# Altium schematic symbol library G510-Q50-00.SchLib: 1 symbol
Pins are listed as number, name and electrical type; pins without a type are passive.

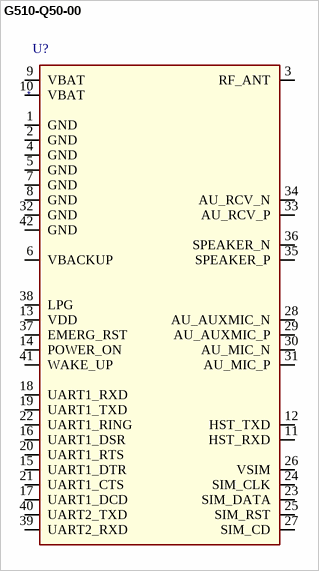
[diagram p0: symbol G510-Q50-00]

## G510-Q50-00
designator U?
ID: G510-Q50-00; PDF: http://www.tme.eu/pl/Document/fabb43e22a46fba821931db19e577988/FIBOCOM_G510_U_M.pdf; PRICE: 33.05; BUY_LINK: http://www.tme.eu/pl/details/g510-q50-00/moduly-gsmgps/fibocom/g510-q50-00/#t5952bb8c47862a41537f16ba992c9fe9
footprint G510-Q50-00
pins: 1 GND, 2 GND, 3 RF_ANT, 4 GND, 5 GND, 6 VBACKUP, 7 GND, 8 GND, 9 VBAT, 10 VBAT, 11 HST_RXD, 12 HST_TXD, 13 VDD, 14 POWER_ON, 15 UART1_DTR, 16 UART1_DSR, 17 UART1_DCD, 18 UART1_RXD, 19 UART1_TXD, 20 UART1_RTS, 21 UART1_CTS, 22 UART1_RING, 23 SIM_DATA, 24 SIM_CLK, 25 SIM_RST, 26 VSIM, 27 SIM_CD, 28 AU_AUXMIC_N, 29 AU_AUXMIC_P, 30 AU_MIC_N, 31 AU_MIC_P, 32 GND, 33 AU_RCV_P, 34 AU_RCV_N, 35 SPEAKER_P, 36 SPEAKER_N, 37 EMERG_RST, 38 LPG, 39 UART2_RXD, 40 UART2_TXD, 41 WAKE_UP, 42 GND